# EAGLE library part JST-XH-7 (library WM_Parts)
2.5mm Header - 7 Pin
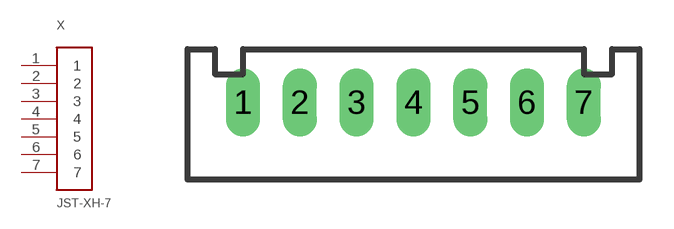
[diagram p4: symbol with the pads of JST-XH-7; footprint JST-XH-7]

Designator prefix X

## JST-XH-7 (MF: MOLEX; MPN: 22-23-2071; OC_FARNELL: 1654534; OC_NEWARK: 56H0445)  [JST-XH-7]
1  1
2  2
3  3
4  4
5  5
6  6
7  7

## Footprint JST-XH-7 (pad centres in mm)
.100" (2.54mm) Center Header - 7 Pin
drill 1 long: 1 -7.5,0; 2 -5,0; 3 -2.5,0; 4 0,0; 5 2.5,0; 6 5,0; 7 7.5,0